# Altium integrated library con-cui.IntLib: 1 symbol
Pins are listed as number, name and electrical type; pins without a type are passive.

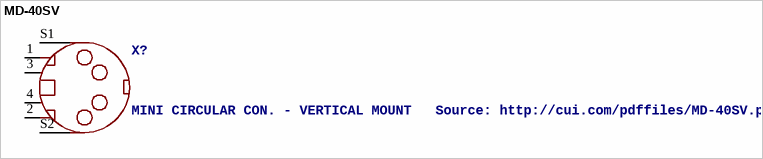
[diagram p0: symbol MD-40SV]

## MD-40SV
designator X?, comment MINI CIRCULAR CON. - VERTICAL MOUNT   Source: http://cui.com/pdffiles/MD-40SV.pdf
OC_FARNELL: unknown; OC_NEWARK: unknown
footprint MD-40SV
pins: 1, 2, 3, 4, S1 S@1, S2 S@2